# EAGLE library part MSP430F1232 (library 1_USER)
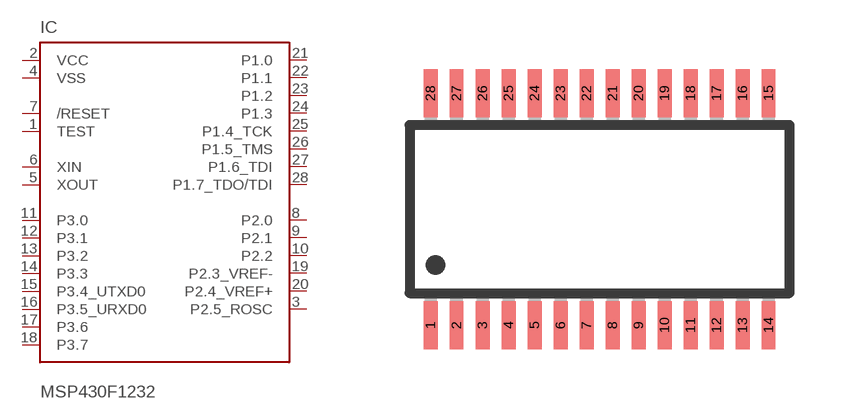
[diagram p18: symbol with the pads of TSSOP28; footprint TSSOP28]

Designator prefix IC

## MSP430F1232  [TSSOP28]
1  TEST  in
2  VCC  pwr
3  P2.5_ROSC
4  VSS  pwr
5  XOUT
6  XIN  in
7  /RESET  in
8  P2.0
9  P2.1
10  P2.2
11  P3.0
12  P3.1
13  P3.2
14  P3.3
15  P3.4_UTXD0
16  P3.5_URXD0
17  P3.6
18  P3.7
19  P2.3_VREF-
20  P2.4_VREF+
21  P1.0
22  P1.1
23  P1.2
24  P1.3
25  P1.4_TCK
26  P1.5_TMS
27  P1.6_TDI
28  P1.7_TDO/TDI

## Footprint TSSOP28 (pad centres in mm)
28-Lead TSSOP Package RU-28
smd 0.35 x 1.2: 1 -4.225,-2.9; 2 -3.575,-2.9; 3 -2.925,-2.9; 4 -2.275,-2.9; 5 -1.625,-2.9; 6 -0.975,-2.9; 7 -0.325,-2.9; 8 0.325,-2.9; 9 0.975,-2.9; 10 1.625,-2.9; 11 2.275,-2.9; 12 2.925,-2.9; 13 3.575,-2.9; 14 4.225,-2.9; 15 4.225,2.9; 16 3.575,2.9; 17 2.925,2.9; 18 2.275,2.9; 19 1.625,2.9; 20 0.975,2.9; 21 0.325,2.9; 22 -0.325,2.9; 23 -0.975,2.9; 24 -1.625,2.9; 25 -2.275,2.9; 26 -2.925,2.9; 27 -3.575,2.9; 28 -4.225,2.9